# Altium footprint library MCP2561Footprint.PcbLib: 1 footprints
Each footprint in its own frame and in the unit in brackets; x right, y up, seen from the top. Pads: shape width x height; smd on the part's side, far side on the other; paste and mask are expansions set on the pad; w line width, h text height; cw(c..) or ccw(c..) is an arc to the next point about the centre after c.
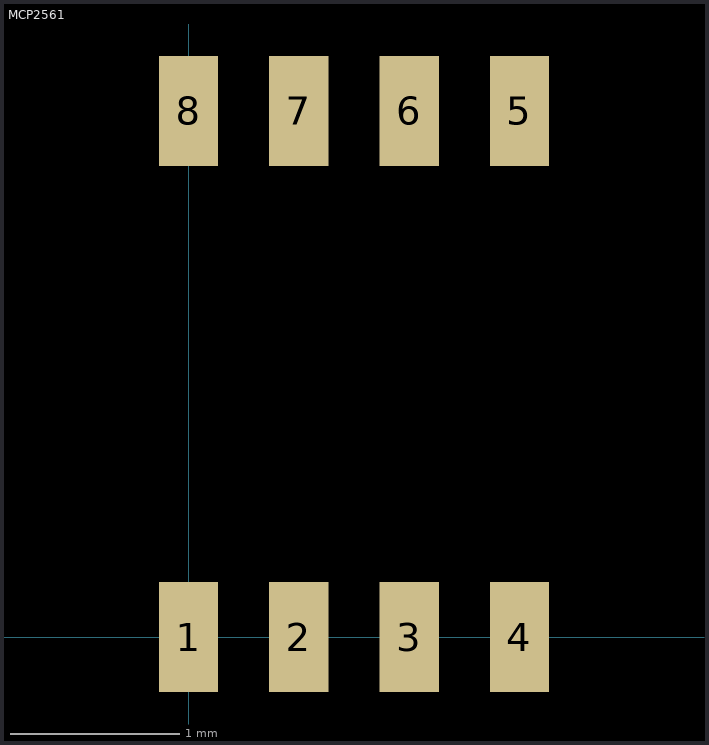
[diagram p0: the footprint, top view; thin cyan lines are the x and y axes]

## MCP2561 [mm]
pads (8):
  rect 0.35x0.65 smd: 1(0,0) 2(0.65,0) 3(1.3,0) 4(1.95,0) 5(1.95,3.1) 6(1.3,3.1) 7(0.65,3.1) 8(0,3.1)
3D body: height 0.25, standoff 0, extent -0.275,-0.425 -0.275,-0.425